# EAGLE library part ADNS-2610 (library Arsenio)
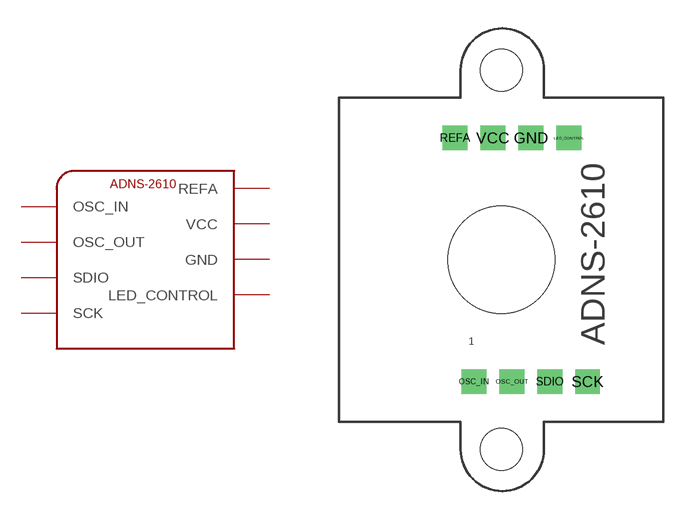
[diagram p12: symbol with the pads of ADNS-2610; footprint ADNS-2610]

Designator prefix -

## ADNS-2610  [ADNS-2610]
GND  GND
LED_CONTROL  LED_CONTROL
OSC_IN  OSC_IN
OSC_OUT  OSC_OUT
REFA  REFA
SCK  SCK
SDIO  SDIO
VCC  VCC

## Footprint ADNS-2610 (pad centres in mm)
drill 0.8 square: GND 2,6.425; LED_CONTROL 4,6.425; OSC_IN -1,-6.425; OSC_OUT 1,-6.425; REFA -2,6.425; SCK 5,-6.425; SDIO 3,-6.425; VCC 0,6.425
hole 5.65 at 0.45,0
hole 2.2 at 0.45,10
hole 2.2 at 0.45,-10